# Altium schematic symbol library CR battery holders.SchLib: 1 symbol
Pins are listed as number, name and electrical type; pins without a type are passive.

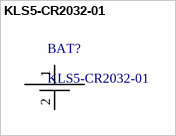
[diagram p0: symbol KLS5-CR2032-01]

## KLS5-CR2032-01
designator BAT?
CR2032 Battery holder TH mount
footprint KLS5-CR2032-01 (CR2032 battery holder footprint)
pins: 1 V+, 2 V-